# EAGLE library part IF_VIDEO_BRIDGE_TC358743XBG (library !GPLIB_ACTIVE)
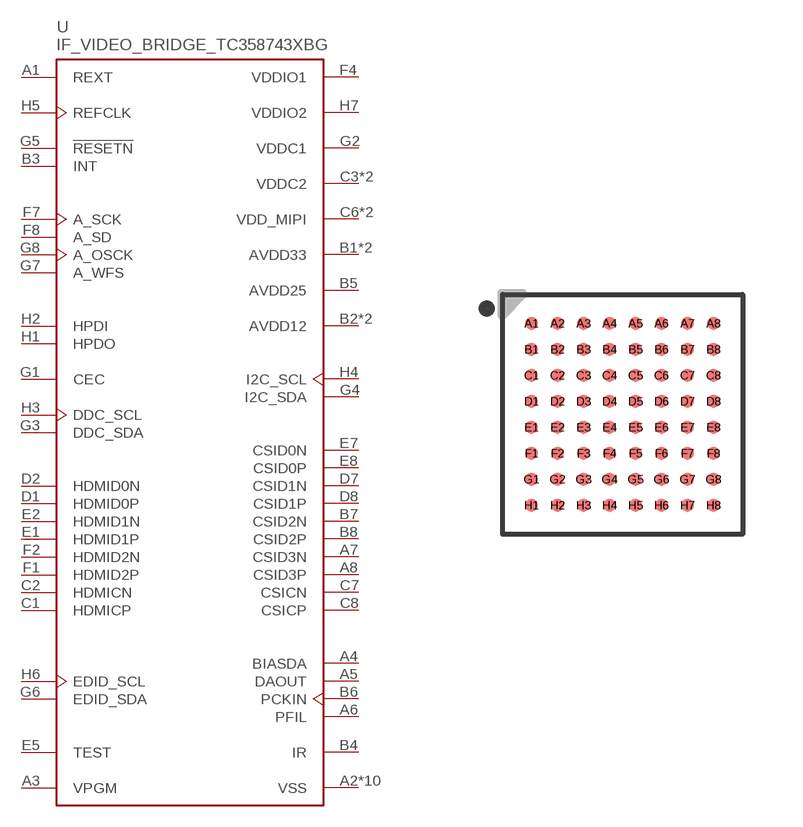
[diagram p1: symbol with the pads of BGA64C65P8X8_600X600X120N; footprint BGA64C65P8X8_600X600X120N]

Designator prefix U

## IF_VIDEO_BRIDGE_TC358743XBG  [BGA64C65P8X8_600X600X120N]
A1  REXT  pas
A2  VSS  pwr
A3  VPGM  pwr
A4  BIASDA  out
A5  DAOUT  out
A6  PFIL  out
A7  CSID3N
A8  CSID3P
B1  AVDD33  pwr
B2  AVDD12  pwr
B3  INT  out
B4  IR  in
B5  AVDD25  pwr
B6  PCKIN  in
B7  CSID2N
B8  CSID2P
C1  HDMICP
C2  HDMICN
C3  VDDC2  pwr
C4  VSS  pwr
C5  VSS  pwr
C6  VDD_MIPI  pwr
C7  CSICN
C8  CSICP
D1  HDMID0P
D2  HDMID0N
D3  AVDD12  pwr
D4  VSS  pwr
D5  VSS  pwr
D6  VSS  pwr
D7  CSID1N
D8  CSID1P
E1  HDMID1P
E2  HDMID1N
E3  VSS  pwr
E4  VSS  pwr
E5  TEST  in
E6  VSS  pwr
E7  CSID0N
E8  CSID0P
F1  HDMID2P
F2  HDMID2N
F3  AVDD33  pwr
F4  VDDIO1  pwr
F5  VDDC2  pwr
F6  VDD_MIPI  pwr
F7  A_SCK  out
F8  A_SD  out
G1  CEC
G2  VDDC1  pwr
G3  DDC_SDA
G4  I2C_SDA
G5  !RESETN  in
G6  EDID_SDA
G7  A_WFS  out
G8  A_OSCK  out
H1  HPDO  out
H2  HPDI  in
H3  DDC_SCL
H4  I2C_SCL
H5  REFCLK  in
H6  EDID_SCL
H7  VDDIO2  pwr
H8  VSS  pwr

## Footprint BGA64C65P8X8_600X600X120N (pad centres in mm)
smd 0.32 x 0.32: A1 -2.275,2.275; A2 -1.625,2.275; A3 -0.975,2.275; A4 -0.325,2.275; A5 0.325,2.275; A6 0.975,2.275; A7 1.625,2.275; A8 2.275,2.275; B1 -2.275,1.625; B2 -1.625,1.625; B3 -0.975,1.625; B4 -0.325,1.625; B5 0.325,1.625; B6 0.975,1.625; B7 1.625,1.625; B8 2.275,1.625; C1 -2.275,0.975; C2 -1.625,0.975; C3 -0.975,0.975; C4 -0.325,0.975; C5 0.325,0.975; C6 0.975,0.975; C7 1.625,0.975; C8 2.275,0.975; D1 -2.275,0.325; D2 -1.625,0.325; D3 -0.975,0.325; D4 -0.325,0.325; D5 0.325,0.325; D6 0.975,0.325; D7 1.625,0.325; D8 2.275,0.325; E1 -2.275,-0.325; E2 -1.625,-0.325; E3 -0.975,-0.325; E4 -0.325,-0.325; E5 0.325,-0.325; E6 0.975,-0.325; E7 1.625,-0.325; E8 2.275,-0.325; F1 -2.275,-0.975; F2 -1.625,-0.975; F3 -0.975,-0.975; F4 -0.325,-0.975; F5 0.325,-0.975; F6 0.975,-0.975; F7 1.625,-0.975; F8 2.275,-0.975; G1 -2.275,-1.625; G2 -1.625,-1.625; G3 -0.975,-1.625; G4 -0.325,-1.625; G5 0.325,-1.625; G6 0.975,-1.625; G7 1.625,-1.625; G8 2.275,-1.625; H1 -2.275,-2.275; H2 -1.625,-2.275; H3 -0.975,-2.275; H4 -0.325,-2.275; H5 0.325,-2.275; H6 0.975,-2.275; H7 1.625,-2.275; H8 2.275,-2.275